# Altium footprint library lib_jst.PcbLib: 2 footprints
Each footprint in its own frame and in the unit in brackets; x right, y up, seen from the top. Pads: shape width x height; smd on the part's side, far side on the other; paste and mask are expansions set on the pad; w line width, h text height; cw(c..) or ccw(c..) is an arc to the next point about the centre after c.
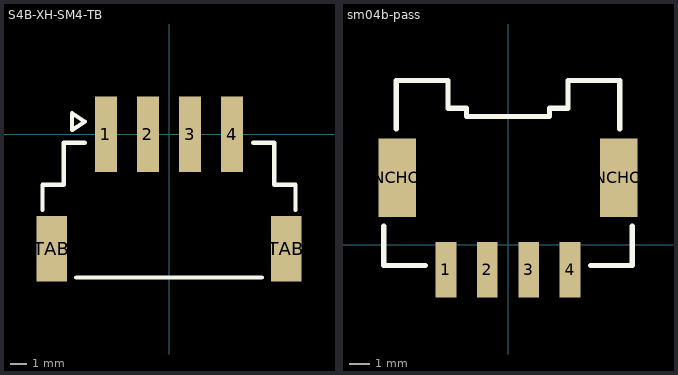
[diagram p0: the footprints below, top view; thin cyan lines are the x and y axes]

## S4B-XH-SM4-TB [mm]
pads (6):
  rect 1.3x4.5 smd: 1(-3.75,0) 2(-1.25,0) 3(1.25,0) 4(3.75,0)
  rect 1.8x3.9 smd: TAB(-6.95,-6.8) TAB(6.95,-6.8)
Top Overlay:
  lines w0.254: -7.5,-4.5 -7.5,-3 -6.25,-3 -6.25,-0.5 -5,-0.5 ; -5.5,-8.5 5.5,-8.5 ; 5,-0.5 6.25,-0.5 6.25,-3 7.5,-3 7.5,-4.5 ; -5.75,0.25 -5,0.75 -5.75,1.25 -5.75,0.25
3D body "S4B-XH-SM4-TB.STEP": height 6, standoff 0, extent -7.475,-8.5 7.475,1.5

## sm04b-pass [mm]
pads (6):
  rect 1x2.7 smd: 1(-3,-1.2) 2(-1,-1.2) 3(1,-1.2) 4(3,-1.2)
  rect 1.8x3.8 smd: ANCHOR(-5.35,3.25) ANCHOR(5.35,3.25)
Top Overlay:
  lines w0.254: -6,0.9 -6,-1 -4,-1 ; -5.4,5.6 -5.4,6.1 -5.4,7.95 -2.9,7.95 -2.9,6.6 -2,6.6 -2,6.2 0,6.2 2,6.2 2,6.6 2.9,6.6 2.9,7.95 5.4,7.95 5.4,6.1 5.4,5.6 ; 4,-1 6,-1 6,0.9
3D body: height 0.25, standoff -8, extent 9,12 9,12
3D body "SM04B-PASS-TB.STEP": height 5.8, standoff 0, extent -6,-2.05 6,7.95
3D body "PAP-04V-S.STEP": height 6.3, standoff 0.5, extent -5,2.1 5,10.1